# EAGLE library part FDS6675 (library NewSDR)
Single P-Channel, Logic Level, PowerTrenchTM MOSFET
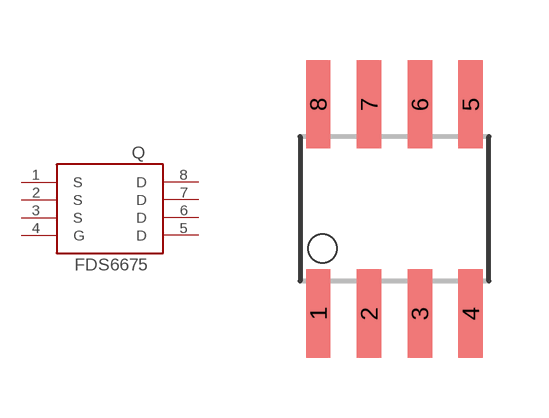
[diagram p45: symbol with the pads of SO8; footprint SO8]

Designator prefix Q

## FDS6675  [SO8]
1  S  pas
2  S  pas
3  S  pas
4  G  pas
5  D  pas
6  D  pas
7  D  pas
8  D  pas

## Footprint SO8 (pad centres in mm)
smd 0.61 x 2.21: 1 -1.905,-2.616; 2 -0.635,-2.616; 3 0.635,-2.616; 4 1.905,-2.616; 5 1.905,2.616; 6 0.635,2.616; 7 -0.635,2.616; 8 -1.905,2.616